# Altium footprint library Main_Board.PcbLib: 50 footprints (part 3 of 4)
Each footprint in its own frame and in the unit in brackets; x right, y up, seen from the top. Pads: shape width x height; smd on the part's side, far side on the other; paste and mask are expansions set on the pad; w line width, h text height; cw(c..) or ccw(c..) is an arc to the next point about the centre after c.
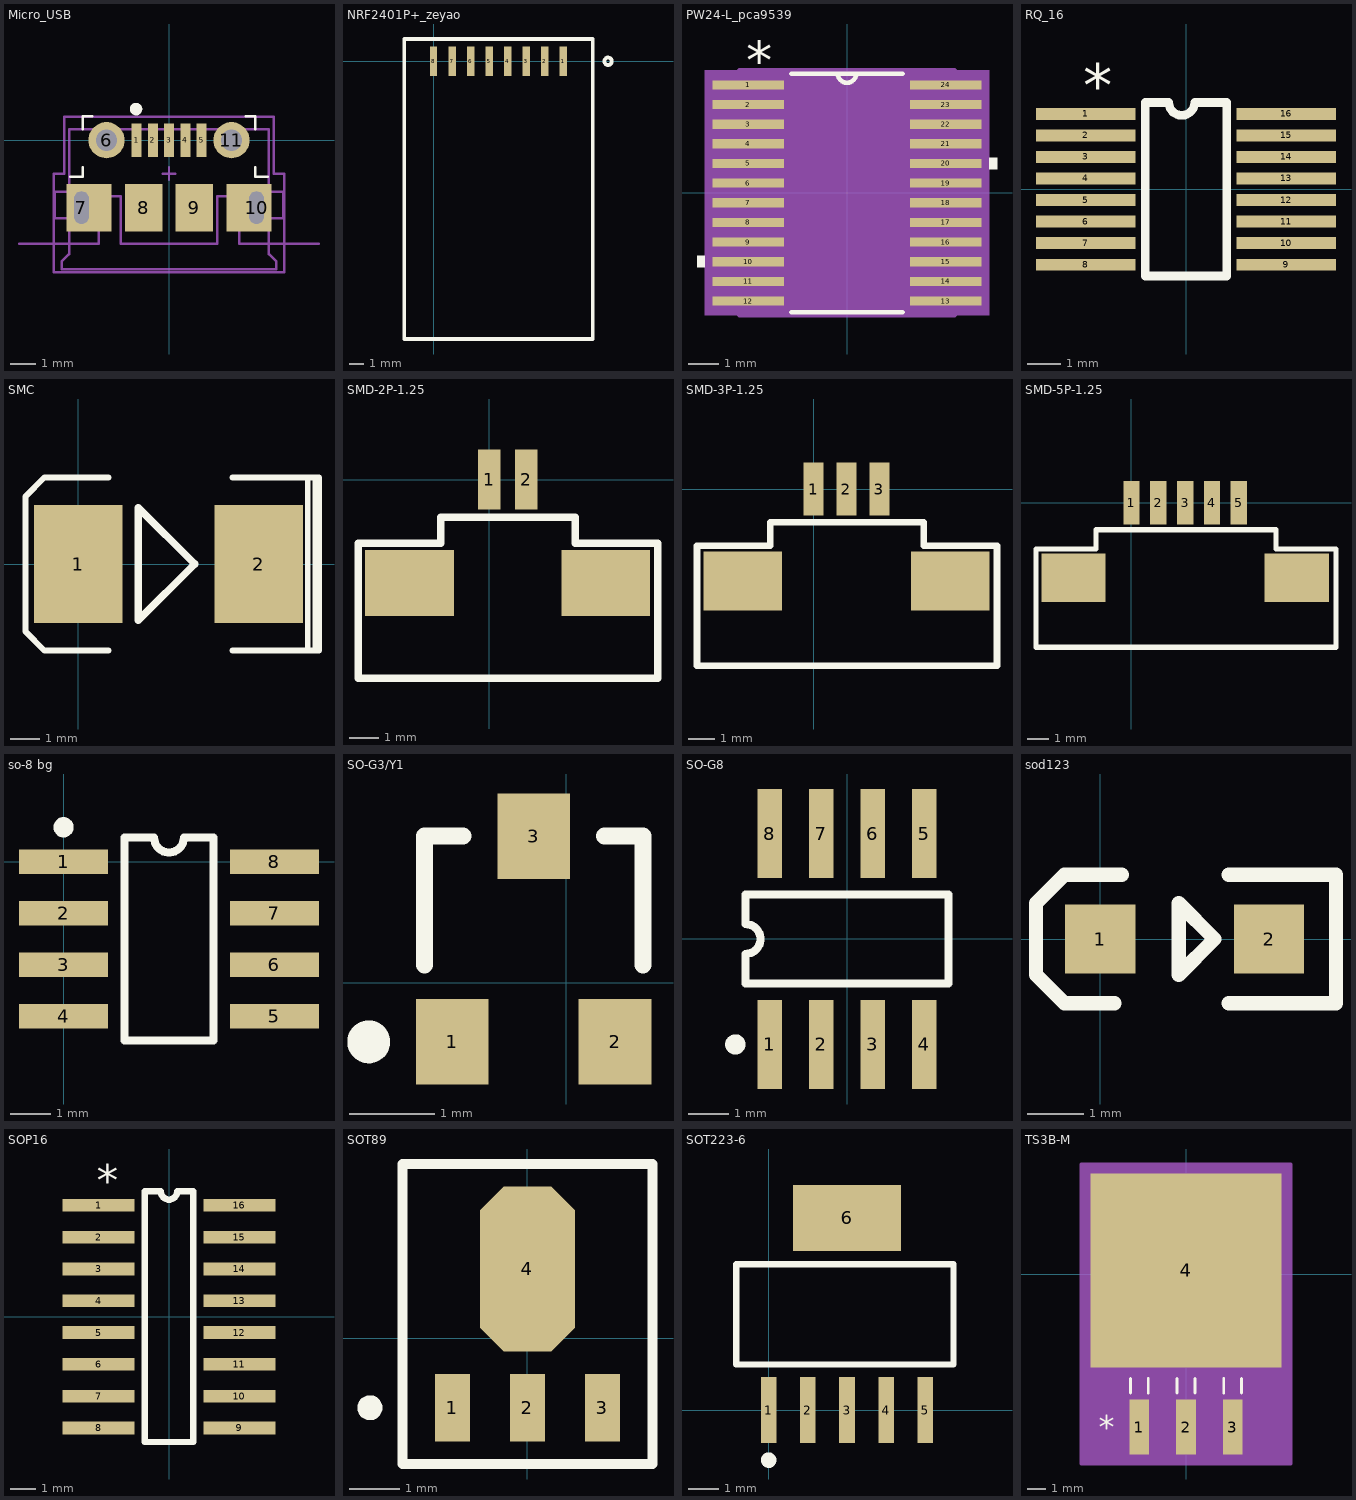
[diagram p2: the footprints below, top view; thin cyan lines are the x and y axes]

## Micro_USB [mm] "USB Micro-B Connector"
height 2.667
pads (11):
  rect 0.4x1.35 smd: 1(-1.3,0) 2(-0.65,0) 3(0,0) 4(0.65,0) 5(1.3,0)
  round 1.45 hole 0.85: 6(-2.5,0) 11(2.5,0)
  rect 1.8x1.9 hole 0.6 slot 1.3 at 90 deg copper offset 0.3,0: 7(-3.5,-2.7)
  rect 1.5x1.9 smd: 8(-1,-2.7) 9(1,-2.7)
  rect 1.8x1.9 hole 0.6 slot 1.3 at 90 deg copper offset -0.3,0: 10(3.5,-2.7)
Top Overlay:
  circle w0.25: c-1.319,1.245 r0.125
  lines w0.1: -3.953,-1.465 -3.445,-1.465 -3.445,-1.084 ; -3.445,0.44 -3.445,0.948 -3.064,0.948 ; 3.064,0.948 3.445,0.948 3.445,0.44 ; 3.445,-1.084 3.445,-1.465 3.953,-1.465
Mechanical 1:
  lines w0.1: -6,-4.137 -2.82,-4.137 -2.82,-2.238 -1.92,-2.238 -1.92,-4.137 0,-4.137 1.92,-4.137 1.92,-2.238 2.82,-2.238 2.82,-4.137 6,-4.137
  text "Board edge" at 5.588,-4.005 h0.2
Mechanical 13:
  lines w0.1: -4,0.442 4,0.442 ; -4,0.442 4,0.442 ; -4,0.442 -4,-2.058 -4.572,-2.058 -4.572,-3.116 -4,-3.116 -4,-4.558 -4.3,-4.858 -4.3,-5.158 4.3,-5.158 4.3,-4.858 4,-4.558 4,-3.116 4.572,-3.116 4.572,-2.058 4,-2.058 4,0.442
Mechanical 15:
  lines w0.1: -4.2,0.937 4.2,0.937 ; -4.2,0.94 -4.2,-1.338 -4.6,-1.338 -4.6,-4.137 -4.6,-5.275 4.6,-5.275 4.6,-4.137 4.6,-1.338 4.2,-1.338 4.2,0.94 ; -0.254,-1.338 0.254,-1.338 ; 0,-1.592 0,-1.084
3D body "1050170001.stp": height 2.58, standoff -0.72, extent -4.1,-5.207 4.1,0.193

## NRF2401P+_zeyao [mm]
pads (8):
  rect 0.508x2 smd: 1(8.89,0) 2(7.62,0) 3(6.35,0) 4(5.08,0) 5(3.81,0) 6(2.54,0) 7(1.27,0) 8(0,0)
Top Overlay:
  circle w0.254: c11.938,0 r0.254
  lines w0.254: 10.89,-19 -2,-19 -2,1.524 10.89,1.524 10.89,-18.923

## PW24-L_pca9539 [mm]
pads (24):
  rect 2.372x0.305 smd: 1(-3.269,3.575) 2(-3.269,2.925) 3(-3.269,2.275) 4(-3.269,1.625) 5(-3.269,0.975) 6(-3.269,0.325) 7(-3.269,-0.325) 8(-3.269,-0.975) 9(-3.269,-1.625) 10(-3.269,-2.275) 11(-3.269,-2.925) 12(-3.269,-3.575) 13(3.269,-3.575) 14(3.269,-2.925) 15(3.269,-2.275) 16(3.269,-1.625) 17(3.269,-0.975) 18(3.269,-0.325) 19(3.269,0.325) 20(3.269,0.975) 21(3.269,1.625) 22(3.269,2.275) 23(3.269,2.925) 24(3.269,3.575)
Top Overlay:
  region: -4.708,-2.084 -4.962,-2.084 -4.962,-2.465 -4.708,-2.465
  region: 4.708,1.165 4.962,1.165 4.962,0.784 4.708,0.784
  lines w0.152: -1.835,-3.95 1.835,-3.95 ; -1.835,3.95 1.835,3.95 ; -0.305,3.95 ccw(c0,3.95) 0.305,3.95
  text "*" at -3.34,3.753 h1.27
Mechanical 13:
  lines w0: -0.305,3.95 ccw(c0,3.95) 0.305,3.95
  lines w0.025: -3.302,-3.727 -3.302,-3.423 -2.248,-3.423 -2.248,-3.727 -3.302,-3.727 ; -3.302,-3.077 -3.302,-2.773 -2.248,-2.773 -2.248,-3.077 -3.302,-3.077 ; -3.302,-2.427 -3.302,-2.123 -2.248,-2.123 -2.248,-2.427 -3.302,-2.427 ; -3.302,-1.777 -3.302,-1.473 -2.248,-1.473 -2.248,-1.777 -3.302,-1.777 ; -3.302,-1.127 -3.302,-0.823 -2.248,-0.823 -2.248,-1.127 -3.302,-1.127 ; -3.302,-0.477 -3.302,-0.173 -2.248,-0.173 -2.248,-0.477 -3.302,-0.477 ; -3.302,0.173 -3.302,0.477 -2.248,0.477 -2.248,0.173 -3.302,0.173 ; -3.302,0.823 -3.302,1.127 -2.248,1.127 -2.248,0.823 -3.302,0.823 ; -3.302,1.473 -3.302,1.777 -2.248,1.777 -2.248,1.473 -3.302,1.473 ; -3.302,2.123 -3.302,2.427 -2.248,2.427 -2.248,2.123 -3.302,2.123 ; -3.302,2.773 -3.302,3.077 -2.248,3.077 -2.248,2.773 -3.302,2.773 ; -3.302,3.423 -3.302,3.727 -2.248,3.727 -2.248,3.423 -3.302,3.423 ; -2.248,-3.95 2.248,-3.95 2.248,3.95 -2.248,3.95 -2.248,-3.95 ; 2.248,-3.727 2.248,-3.423 3.302,-3.423 3.302,-3.727 2.248,-3.727 ; 2.248,-3.077 2.248,-2.773 3.302,-2.773 3.302,-3.077 2.248,-3.077 ; 2.248,-2.427 2.248,-2.123 3.302,-2.123 3.302,-2.427 2.248,-2.427 ; 2.248,-1.777 2.248,-1.473 3.302,-1.473 3.302,-1.777 2.248,-1.777 ; 2.248,-1.127 2.248,-0.823 3.302,-0.823 3.302,-1.127 2.248,-1.127 ; 2.248,-0.477 2.248,-0.173 3.302,-0.173 3.302,-0.477 2.248,-0.477 ; 2.248,0.173 2.248,0.477 3.302,0.477 3.302,0.173 2.248,0.173 ; 2.248,0.823 2.248,1.127 3.302,1.127 3.302,0.823 2.248,0.823 ; 2.248,1.473 2.248,1.777 3.302,1.777 3.302,1.473 2.248,1.473 ; 2.248,2.123 2.248,2.427 3.302,2.427 3.302,2.123 2.248,2.123 ; 2.248,2.773 2.248,3.077 3.302,3.077 3.302,2.773 2.248,2.773 ; 2.248,3.423 2.248,3.727 3.302,3.727 3.302,3.423 2.248,3.423
  text "*" at -3.34,3.753 h1.27
Mechanical 15:
  region: 4.699,-4.051 -4.699,-4.051 -4.699,4.051 4.699,4.051
  lines w0.152: -3.556,-4.051 -3.556,4.051 3.556,4.051 3.556,-4.051 -3.556,-4.051
3D body: height 0.25, standoff 0, extent 0,0 0.254,0.254

## RQ_16 [mm] "ADuM141D"
pads (16):
  rect 2.956x0.351 smd paste+0 mask+0: 1(-2.977,2.24) 2(-2.977,1.6) 3(-2.977,0.96) 4(-2.977,0.32) 5(-2.977,-0.32) 6(-2.977,-0.96) 7(-2.977,-1.6) 8(-2.977,-2.24) 9(2.977,-2.24) 10(2.977,-1.6) 11(2.977,-0.96) 12(2.977,-0.32) 13(2.977,0.32) 14(2.977,0.96) 15(2.977,1.6) 16(2.977,2.24)
Top Overlay:
  lines w0.254: -1.209,-2.577 -1.209,2.577 -0.51,2.577 ccw(c-0.127,2.577) 0.256,2.577 1.209,2.577 1.209,-2.577 -1.209,-2.577
  text "*" at -3.049,2.464 h1.27
3D body: height 0.25, standoff 0, extent 0,0 0.254,0.254

## SMC [mm]
height 1.45
pads (2):
  rect 3x4 smd: 1(0,0) 2(6.096,0)
Top Overlay:
  lines w0.2: 7.747,-2.921 7.747,2.921 ; 8.001,-2.921 8.001,2.921 ; 8.128,-2.921 8.128,2.921
  lines w0.203: 1.016,-2.921 -1.143,-2.921 -1.778,-2.286 -1.778,2.286 -1.143,2.921 1.016,2.921 ; 5.207,-2.921 8.128,-2.921 ; 5.207,2.921 8.128,2.921
  lines w0.254: 2.032,-1.905 2.032,1.905 3.937,0 2.032,-1.905

## SMD-2P-1.25 [mm]
height 1.45
pads (4):
  rect 0.762x2.032 smd: 1(0,0) 2(1.25,0)
  rect 3x2.25 smd: ""(-2.7,-3.5) ""(3.95,-3.5)
Top Overlay:
  lines w0.254: -4.445,-6.731 5.715,-6.731 5.715,-2.159 2.921,-2.159 2.921,-1.27 -1.651,-1.27 -1.651,-2.159 -4.445,-2.159 -4.445,-6.731

## SMD-3P-1.25 [mm]
height 1.45
pads (5):
  rect 0.762x2.032 smd: 1(0,0) 2(1.25,0) 3(2.5,0)
  rect 3x2.25 smd: ""(-2.7,-3.5) ""(5.2,-3.5)
Top Overlay:
  lines w0.254: -4.445,-6.731 -4.445,-2.159 -1.651,-2.159 -1.651,-1.27 4.191,-1.27 4.191,-2.159 6.985,-2.159 6.985,-6.731 -4.445,-6.731

## SMD-5P-1.25 [mm]
height 1.45
pads (7):
  rect 0.762x2.032 smd: 1(0,0) 2(1.25,0) 3(2.5,0) 4(3.75,0) 5(5,0)
  rect 3x2.25 smd: ""(-2.7,-3.5) ""(7.7,-3.5)
Top Overlay:
  lines w0.254: -4.445,-6.731 9.525,-6.731 9.525,-2.159 6.731,-2.159 6.731,-1.27 -1.651,-1.27 -1.651,-2.159 -4.445,-2.159 -4.445,-6.731

## so-8 bg [mm]
pads (8):
  rect 2.2x0.6 smd: 1(0,0) 2(0,-1.27) 3(0,-2.54) 4(0,-3.81) 5(5.2,-3.81) 6(5.2,-2.54) 7(5.2,-1.27) 8(5.2,0)
Top Overlay:
  circle w0.25: c0,0.85 r0.125
  lines w0.2: 2.233,0.595 ccw(c2.6,0.595) 2.967,0.595 ; 2.233,0.595 1.5,0.595 1.5,-4.405 3.7,-4.405 3.7,0.595 2.967,0.595

## SO-G3/Y1 [mm]
height 1.2
pads (3):
  rect 0.85x1 smd: 1(-1.331,-0.692) 2(0.569,-0.692) 3(-0.381,1.708)
Top Overlay:
  circle w0.25: c-2.306,-0.692 r0.125
  lines w0.2: -1.656,0.208 -1.656,1.708 -1.206,1.708 ; 0.444,1.708 0.894,1.708 0.894,0.208

## SO-G8 [mm]
height 1.45
pads (8):
  rect 0.6x2.2 smd: 1(-1.905,-2.6) 2(-0.635,-2.6) 3(0.635,-2.6) 4(1.905,-2.6) 5(1.905,2.6) 6(0.635,2.6) 7(-0.635,2.6) 8(-1.905,2.6)
Top Overlay:
  circle w0.25: c-2.755,-2.6 r0.125
  lines w0.2: -2.5,-1.1 -2.5,-0.367 ccw(c-2.5,0) -2.5,0.367 -2.5,1.1 2.5,1.1 2.5,-1.1 -2.5,-1.1

## sod123 [mm]
pads (2):
  rect 1.25x1.22 smd: 1(0,0) 2(3,0)
Top Overlay:
  lines w0.254: 0.254,-1.143 -0.635,-1.143 -1.143,-0.635 -1.143,0.635 -0.635,1.143 0.381,1.143 ; 2.286,-1.143 4.191,-1.143 4.191,1.143 2.286,1.143 ; 1.397,-0.635 1.397,0.635 2.032,0 1.397,-0.635

## SOP16 [mm] "SN65LBC175A-EP"
pads (16):
  rect 2.88x0.508 smd: 1(-2.811,4.445) 2(-2.811,3.175) 3(-2.811,1.905) 4(-2.811,0.635) 5(-2.811,-0.635) 6(-2.811,-1.905) 7(-2.811,-3.175) 8(-2.811,-4.445) 9(2.811,-4.445) 10(2.811,-3.175) 11(2.811,-1.905) 12(2.811,-0.635) 13(2.811,0.635) 14(2.811,1.905) 15(2.811,3.175) 16(2.811,4.445)
Top Overlay:
  lines w0.254: -0.965,-5.004 0.965,-5.004 ; -0.965,-4.928 -0.965,5.004 -0.33,5.004 ccw(c0,5.004) 0.33,5.004 0.965,5.004 0.965,-4.953
  text "*" at -2.883,4.826 h1.27
3D body: height 0.25, standoff 0, extent 0,0 0.254,0.254

## SOT89 [mm] "SOT-89; Body 4.6 x 4.25 mm, inc. leads (LxW max)"
height 1.6
pads (4):
  rect 0.7x1.35 smd: 1(-1.5,-1.388) 2(0,-1.388) 3(1.5,-1.388)
  oct 1.9x3.3 smd: 4(0,1.388)
Top Overlay:
  circle w0.25: c-3.15,-1.388 r0.125
  lines w0.2: -2.5,-2.513 2.5,-2.513 2.5,3.487 -2.5,3.487 -2.5,-2.513

## SOT223-6 [mm]
pads (6):
  rect 0.51x2.15 smd: 1(0,0) 2(1.27,0) 3(2.54,0) 4(3.81,0) 5(5.08,0)
  rect 3.5x2.15 smd: 6(2.54,6.223)
Top Overlay:
  circle w0.25: c0,-1.625 r0.125
  lines w0.2: -1.05,1.475 5.994,1.475 5.994,4.725 -1.05,4.725 -1.05,1.475

## TS3B-M [mil]
pads (4):
  rect 42x118 smd: 1(-100,-328) 2(0,-328) 3(100,-328)
  rect 410x416 smd: 4(0,8)
Top Overlay:
  lines w6: -119,-255 -119,-224 ; -81,-255 -81,-224 ; -19,-255 -19,-224 ; 19,-255 19,-224 ; 81,-255 81,-224 ; 119,-255 119,-224
  text "*" at -187.5,-353 h50
Mechanical 13:
  lines w1: -205,-200 205,-200 205,200 -205,200 -205,-200 ; -119,-365 -119,-200 -81,-200 -81,-365 -119,-365 ; -19,-365 -19,-200 19,-200 19,-365 -19,-365 ; 81,-365 81,-200 119,-200 119,-365 81,-365
  text "*" at -187.5,-353 h50
Mechanical 15:
  region: 225,-407 -225,-407 -225,236 225,236
  lines w6: -225,-407 -225,236 225,236 225,-407 -225,-407
3D body: height 10, standoff 0, extent 0,0 10,10